# Altium schematic symbol library ESPModule.SchLib: 1 symbol
Pins are listed as number, name and electrical type; pins without a type are passive.

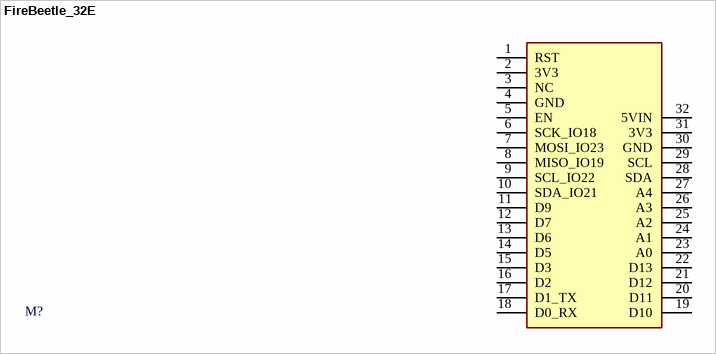
[diagram p0: symbol FireBeetle_32E]

## FireBeetle_32E
designator M?
FIREBEETLE ESP32-E IOT MICROCONT; Manufacturer: DFRobot; Manufacturer Part Number 1: DFR0654; Value: *
footprint DFR0654 (FIREBEETLE ESP32-E IOT MICROCONT)
pins: 1 RST, 2 3V3, 3 NC, 4 GND, 5 EN, 6 SCK_IO18, 7 MOSI_IO23, 8 MISO_IO19, 9 SCL_IO22, 10 SDA_IO21, 11 D9, 12 D7, 13 D6, 14 D5, 15 D3, 16 D2, 17 D1_TX, 18 D0_RX, 19 D10, 20 D11, 21 D12, 22 D13, 23 A0, 24 A1, 25 A2, 26 A3, 27 A4, 28 SDA, 29 SCL, 30 GND, 31 3V3, 32 5VIN